# Altium schematic symbol library Axial Inductors.SchLib: 1 symbol
Pins are listed as number, name and electrical type; pins without a type are passive.

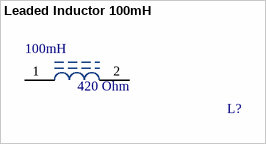
[diagram p0: symbol Leaded Inductor 100mH]

## Leaded Inductor 100mH
designator L?  Inductance: 100mH  Resistence: 420 Ohm  (hidden comment: Leaded Inductor 100mH)
100mH Unshielded Wirewound Inductor 20mA 420 Ohm Max Axial; Manufacturer 1: EPCOS (TDK); Manufacturer 1 PN: B82144A2107J000; ComponentLink1Description: Datasheet; ComponentLink1URL: https://www.tdk-electronics.tdk.com/inf/30/db/ind_2008/b82144a.pdf; Digikey PN: 495-5616-1-ND; Mouser PN: 871-B82144A2107J; Current: 20mA
footprint Leaded Inductor (100mH Unshielded Wirewound Inductor 20mA 420 Ohm Max Axial)
pins: 1 (power), 2 (power)